# EAGLE library part 653107131822 (library Wuerth_Elektronik_eiCan_Wire_to_Board_Connectors v1.2)
WR-WTB 1.25mm SMT Male Horizontal Shrouded Header, 7 Pins
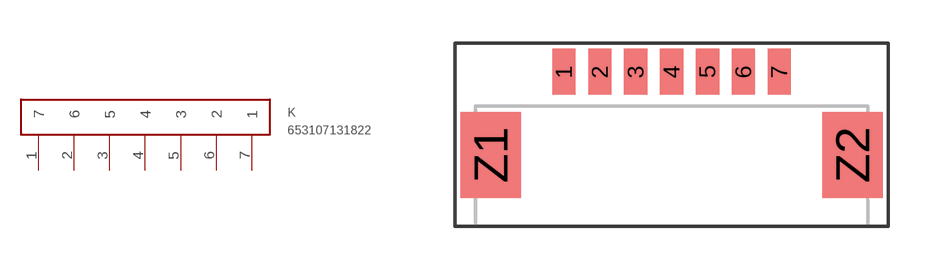
[diagram p64: symbol with the pads of 653107131822; footprint 653107131822]

Designator prefix K

## 653107131822  [653107131822]
1  7
2  6
3  5
4  4
5  3
6  2
7  1

## Footprint 653107131822 (pad centres in mm)
WR-WTB 1.25mm SMT Male Horizontal Shrouded Header, 7 Pins
smd 0.81 x 1.6: 1 -0.625,0; 2 0.625,0; 3 1.875,0; 4 3.125,0; 5 4.375,0; 6 5.625,0; 7 6.875,0
smd 2.1 x 3: Z1 -3.175,-2.9; Z2 9.425,-2.9